# Altium footprint library DIP-RL  0607.PCBlib: 52 footprints (part 3 of 4)
Each footprint in its own frame and in the unit in brackets; x right, y up, seen from the top. Pads: shape width x height; smd on the part's side, far side on the other; paste and mask are expansions set on the pad; w line width, h text height; cw(c..) or ccw(c..) is an arc to the next point about the centre after c.
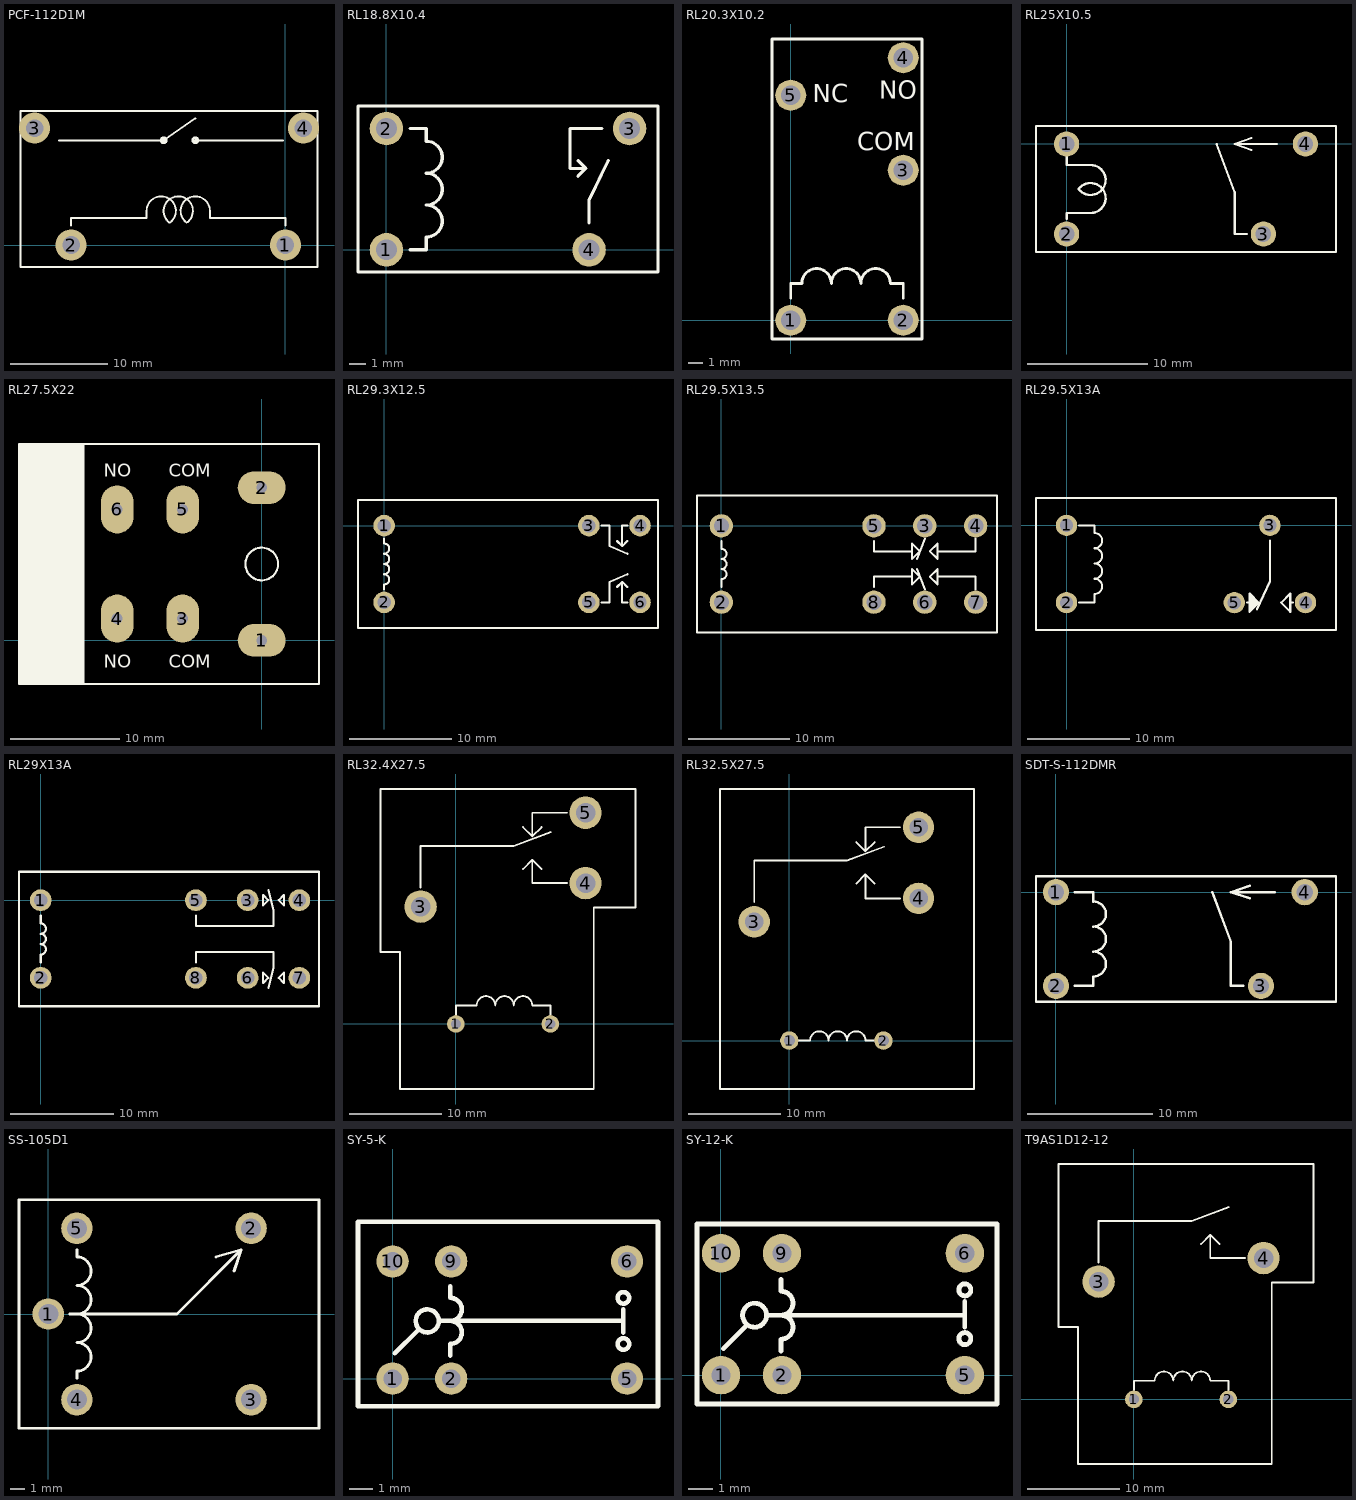
[diagram p2: the footprints below, top view; thin cyan lines are the x and y axes]

## PCF-112D1M [mm] "0720500001"
height 37
pads (4):
  round 3.2 hole 1.8: 1(0,0) 2(-22,0) 3(-25.75,12) 4(1.85,12)
Top Overlay:
  circle w0.3: c-9.25,10.75 r0.25
  circle w0.3: c-12.5,10.75 r0.25
  lines w0.2: -23.25,10.75 -12.5,10.75 -9.25,13 ; -22,2 -22,2.75 -14.25,2.75 -14.25,3.5 cw(c-12.75,3.5) -11.847,2.302 ; -11.903,2.302 cw(c-11,3.5) -10.036,2.351 ; -10.153,2.302 cw(c-9.25,3.5) -7.75,3.5 -7.75,2.75 0,2.75 0,2 ; -9.25,10.75 -0.25,10.75 ; -27.2,-2.25 3.3,-2.25 3.3,13.75 -27.2,13.75 -27.2,-2.25

## RL18.8X10.4 [mm]
pads (4):
  round 2.1 hole 1.3: 1(0,0) 2(0,7.6) 3(15.24,7.6) 4(12.7,0)
Top Overlay:
  lines w0.2: 1.5,0 2.5,0 2.5,0.8 ccw(c2.5,1.8) 2.5,2.8 ccw(c2.5,3.8) 2.5,4.8 ccw(c2.5,5.8) 2.5,6.8 ; 1.5,7.6 2.5,7.6 2.5,6.8 ; 12,4.6 12.5,5.1 ; 12,5.6 12.5,5.1 ; 12.7,1.7 12.7,3.1 13.9,5.6 ; 13.5,7.6 11.5,7.6 11.5,5.1 12.5,5.1 ; -1.778,-1.397 -1.778,9.017 17.018,9.017 17.018,-1.397 -1.778,-1.397

## RL20.3X10.2 [mm]
pads (5):
  round 2.1 hole 1.3: 1(0,0) 2(7.62,0) 3(7.62,10.16) 4(7.62,17.78) 5(0,15.24)
Top Overlay:
  lines w0.2: 0,1.5 0,2.5 ; 0,2.5 0.75,2.5 cw(c1.75,2.5) 2.75,2.5 cw(c3.75,2.5) 4.75,2.5 cw(c5.75,2.5) 6.75,2.5 7.62,2.5 7.62,1.5 ; -1.27,-1.27 8.89,-1.27 8.89,19.05 -1.27,19.05 -1.27,-1.27
  text "NO" at 6,15 h1.2
  text "COM" at 4.5,11.5 h1.2
  text "NC" at 1.5,14.75 h1.2

## RL25X10.5 [mm]
pads (4):
  round 2.1 hole 1.3: 1(0,0) 2(0,-7.5) 3(16.4,-7.5) 4(19.9,0)
Top Overlay:
  lines w0.2: 0,-6.25 0,-5.75 2.25,-5.75 ; 0,-1 0,-1.75 2,-1.75 cw(c2,-3) 1.002,-3.752 ; 1.002,-3.748 cw(c2,-4.5) 2,-5.75 ; 12.5,0 14,-4 14,-7.5 15,-7.5 ; 15.4,-0.5 14,0 ; 15.4,0.5 14,0 ; 17.5,0 14,0 ; -2.55,-9 22.45,-9 22.45,1.5 -2.55,1.5 -2.55,-9

## RL27.5X22 [mm]
pads (6):
  oval 4.4x3 hole 1: 1(0,0) 2(0,14)
  oval 3x4.4 hole 1: 3(-7.25,2) 4(-13.25,2) 5(-7.25,12) 6(-13.25,12)
Top Overlay:
  circle w0.2: c0,7 r1.5
  rectangle: -22.25,-4 -16.25,18
  lines w0.2: -22.25,-4 5.25,-4 5.25,18 -22.25,18 -22.25,-4
  text "COM" at -8.5,-2.5 h1.2
  text "NO" at -14.5,-2.5 h1.2
  text "NC" at -19.5,15 h1.2
  text "NO" at -14.5,15 h1.2
  text "COM" at -8.5,15 h1.2
  text "1" at -17.5,11.5 h1.2
  text "2" at -17.5,1 h1.2
  text "NC" at -19.5,-2.5 h1.2
Top Solder:
  lines w1.3: -13.25,1.3 -13.25,2 -13.25,2.7 ; -13.25,11.3 -13.25,12 -13.25,12.7 ; -7.25,1.3 -7.25,2 -7.25,2.7 ; -7.25,11.3 -7.25,12 -7.25,12.7 ; -0.7,0 0,0 0.7,0 ; -0.7,14 0,14 0.7,14
Drill Drawing:
  lines w0.2: -13.75,1.3 ccw(c-13.25,1.3) -12.75,1.3 -12.75,2.7 ccw(c-13.25,2.7) -13.75,2.7 -13.75,1.3 ; -13.75,11.3 ccw(c-13.25,11.3) -12.75,11.3 -12.75,12.7 ccw(c-13.25,12.7) -13.75,12.7 -13.75,11.3 ; -7.75,1.3 ccw(c-7.25,1.3) -6.75,1.3 -6.75,2.7 ccw(c-7.25,2.7) -7.75,2.7 -7.75,1.3 ; -7.75,11.3 ccw(c-7.25,11.3) -6.75,11.3 -6.75,12.7 ccw(c-7.25,12.7) -7.75,12.7 -7.75,11.3 ; -0.7,-0.5 cw(c-0.7,0) -0.7,0.5 0.7,0.5 cw(c0.7,0) 0.7,-0.5 -0.7,-0.5 ; -0.7,13.5 cw(c-0.7,14) -0.7,14.5 0.7,14.5 cw(c0.7,14) 0.7,13.5 -0.7,13.5
  text "(2.4X1.0)*6" at -14.5,6.5 h1.2

## RL29.3X12.5 [mm]
pads (6):
  round 2.1 hole 1.3: 1(0,0) 2(0,-7.5) 3(20,0) 4(25,0) 5(20,-7.5) 6(25,-7.5)
Top Overlay:
  lines w0.2: 0,-6.25 0,-5.75 ccw(c0,-5.25) 0,-4.75 ccw(c0,-4.25) 0,-3.75 ccw(c0,-3.25) 0,-2.75 ccw(c0,-2.25) 0,-1.75 0,-1.25 ; 21.25,-7.5 22,-7.5 22,-5.5 23.75,-4.75 ; 21.25,0 22,0 22,-2 23.75,-2.75 ; 22.75,-6 23.25,-5.5 ; 22.75,-1.5 23.25,-2 ; 23.75,-7.5 23.25,-7.5 23.25,-5.5 ; 23.75,-6 23.25,-5.5 ; 23.75,-1.5 23.25,-2 ; 23.75,0 23.25,0 23.25,-2 ; -2.55,-10 26.75,-10 26.75,2.5 -2.55,2.5 -2.55,-10

## RL29.5X13.5 [mm]
pads (8):
  round 2.3 hole 1.5: 1(0,0) 2(0,-7.5) 3(20,0) 4(25,0) 5(15,0) 6(20,-7.5) 7(25,-7.5) 8(15,-7.5)
Top Overlay:
  lines w0.2: 0,-6 0,-5.25 ccw(c0,-4.75) 0,-4.25 ccw(c0,-3.75) 0,-3.25 ccw(c0,-2.75) 0,-2.25 0,-1.5 ; 15,-6 15,-5 18.75,-5 ; 15,-1.5 15,-2.5 18.75,-2.5 ; 19.25,-3.25 20,-1.25 ; 19.25,-4.25 20,-6.25 ; 21.25,-5 25,-5 25,-6.25 ; 21.25,-2.5 25,-2.5 25,-1.25 ; -2.4,-10.5 -2.4,3 27.1,3 27.1,-10.5 -2.4,-10.5 ; 18.75,-5.75 19.5,-5 18.75,-4.25 18.75,-5.75 ; 18.75,-3.25 19.5,-2.5 18.75,-1.75 18.75,-3.25 ; 20.5,-5 21.25,-4.25 21.25,-5.75 20.5,-5 ; 20.5,-2.5 21.25,-1.75 21.25,-3.25 20.5,-2.5

## RL29.5X13A [mm]
pads (5):
  round 2.1 hole 1.3: 1(0,0) 2(0,-7.6) 3(20,0) 4(23.5,-7.6) 5(16.5,-7.6)
Top Overlay:
  lines w0.2: 1.25,-7.6 2.75,-7.6 2.75,-6.75 ccw(c2.75,-6) 2.75,-5.25 ccw(c2.75,-4.5) 2.75,-3.75 ccw(c2.75,-3) 2.75,-2.25 ccw(c2.75,-1.5) 2.75,-0.75 2.75,0 1.25,0 ; 17.75,-7.6 18,-7.6 ; 18.2,-8.3 18.2,-6.9 ; 18.4,-8.1 18.4,-7.1 ; 18.6,-7.9 18.6,-7.3 ; 18.75,-8.25 20,-5.5 20,-1.5 ; 18.8,-7.7 18.8,-7.5 ; 22,-7.6 22.25,-7.6 ; 18,-7.6 18,-6.7 18.9,-7.6 18,-8.5 18,-7.6 ; -3,-10.3 -3,2.7 26.5,2.7 26.5,-10.3 -3,-10.3 ; 21.1,-7.6 22,-8.5 22,-6.7 21.1,-7.6

## RL29X13A [mm]
pads (8):
  round 2.1 hole 1.3: 1(0,0) 2(0,-7.5) 3(20,0) 4(25,0) 5(15,0) 6(20,-7.5) 7(25,-7.5) 8(15,-7.5)
Top Overlay:
  lines w0.2: 0,-6 0,-5.25 ccw(c0,-4.75) 0,-4.25 ccw(c0,-3.75) 0,-3.25 ccw(c0,-2.75) 0,-2.25 0,-1.5 ; 15,-6 15,-5 22.5,-5 22.5,-6.5 22,-8.5 ; 15,-1.5 15,-2.5 22.5,-2.5 22.5,-1 22,1 ; -2.1,-10.25 26.9,-10.25 26.9,2.75 -2.1,2.75 -2.1,-10.25 ; 21.5,-8 21.5,-7 22,-7.5 21.5,-8 ; 21.5,-0.5 22,0 21.5,0.5 21.5,-0.5 ; 23,-7.5 23.5,-8 23.5,-7 23,-7.5 ; 23,0 23.5,-0.5 23.5,0.5 23,0

## RL32.4X27.5 [mm]
pads (5):
  round 1.9 hole 1.1: 1(0,0) 2(10.2,0)
  round 3.5 hole 2.1: 3(-3.8,12.66) 4(14,15.2) 5(14,22.8)
Top Overlay:
  lines w0.2: -3.8,14.71 -3.8,19.21 6.25,19.21 10.25,20.71 ; 0,1 0,2 2.25,2 cw(c3.25,2) 4.25,2 cw(c5.25,2) 6.25,2 cw(c7.25,2) 8.25,2 10.2,2 10.2,1 ; 7.25,16.71 8.25,17.71 ; 7.25,21.25 8.25,20.25 ; 8.25,15.2 12,15.2 ; 8.25,15.21 8.25,17.71 ; 8.25,22.75 8.25,20.25 ; 8.25,22.8 12,22.8 ; 9.25,16.71 8.25,17.71 ; 9.25,21.25 8.25,20.25 ; -8.12,7.78 -6.025,7.78 -6.025,-7.025 14.885,-7.025 14.885,12.56 19.38,12.56 19.38,25.36 -8.12,25.36 -8.12,7.78

## RL32.5X27.5 [mm]
pads (5):
  round 2 hole 1.2: 1(0,0) 2(10.2,0)
  round 3.4 hole 2: 3(-3.8,12.864) 4(14,15.404) 5(14,23.104)
Top Overlay:
  lines w0.2: -3.8,15 -3.8,19.5 6.25,19.5 10.25,21 ; 0,0 2.25,0 cw(c3.25,0) 4.25,0 cw(c5.25,0) 6.25,0 cw(c7.25,0) 8.25,0 10.2,0 ; 7.25,17 8.25,18 ; 7.25,21.5 8.25,20.5 ; 9.25,17 8.25,18 ; 9.25,21.5 8.25,20.5 ; 12,15.404 8.25,15.404 8.25,18 ; 12,23.104 8.25,23.104 8.25,20.5 ; -7.5,-5.25 -7.5,27.25 20,27.25 20,-5.25 -7.5,-5.25

## SDT-S-112DMR [mm] "0720020401"
height 25
pads (4):
  round 2.1 hole 1.3: 1(0,0) 2(0,-7.5) 3(16.4,-7.5) 4(19.9,0)
Top Overlay:
  lines w0.2: -1.6,-8.75 -1.6,1.25 22.4,1.25 22.4,-8.75 -1.5,-8.75 ; 1.5,-7.5 3,-7.5 3,-6.75 ccw(c3,-5.75) 3,-4.75 ccw(c3,-3.75) 3,-2.75 ccw(c3,-1.75) 3,-0.75 3,0 1.5,0 ; 12.5,0 14,-4 14,-7.5 15,-7.5 ; 15.5,-0.5 14,0 ; 15.5,0.5 14,0 ; 17.5,0 14,0

## SS-105D1 [mm] "0720240001"
height 23.3
pads (5):
  round 2.2 hole 1.4: 1(0,0) 2(14.2,6) 3(14.2,-6) 4(2,-6) 5(2,6)
Top Overlay:
  lines w0.2: 1.5,0 9,0 13.5,4.5 ; 2,-4.5 2,-4 ccw(c2,-3) 2,-2 ccw(c2,-1) 2,0 ccw(c2,1) 2,2 ccw(c2,3) 2,4 2,4.5 ; 11.75,4 13.5,4.5 ; 13,3 13.5,4.5 ; -2.05,-8 -2.05,8 18.95,8 18.95,-8 -2.05,-8

## SY-5-K [mm] "0720670007"
height 9.5
pads (6):
  round 1.4 hole 0.8: 1(0,0) 2(2.54,0) 5(10.16,0) 6(10.16,5.08) 9(2.54,5.08) 10(0,5.08)
Top Overlay:
  circle w0.2: c10,3.5 r0.25
  circle w0.2: c10,1.5 r0.25
  circle w0.2: c1.5,2.5 r0.5
  lines w0.2: 0.1,1.1 1.1,2.1 ; 2,2.5 10,2.5 ; 2.5,1 2.5,1.5 ccw(c2.5,2) 2.5,2.5 ccw(c2.5,3) 2.5,3.5 2.5,4 ; 10,2 10,3 ; -1.5,-1.2 -1.5,6.8 11.5,6.8 11.5,-1.2 -1.5,-1.2
Bottom Overlay:
  lines w0.6: 1.27,-0.8 1.27,0.8 ; 1.27,4.28 1.27,5.88

## SY-12-K [mm]
height 9.5
pads (6):
  round 1.6 hole 0.8: 1(0.002,0.001) 2(2.542,0.001) 5(10.162,0.001) 6(10.162,5.081) 9(2.542,5.081) 10(0.002,5.081)
Top Overlay:
  circle w0.2: c1.402,2.501 r0.5
  circle w0.2: c10.162,1.525 r0.25
  circle w0.2: c10.162,3.557 r0.25
  lines w0.2: 0.102,1.101 1.102,2.101 ; 1.902,2.501 10.162,2.501 ; 2.502,1.001 2.502,1.501 ccw(c2.502,2.001) 2.502,2.501 ccw(c2.502,3.001) 2.502,3.501 2.502,4.001 ; 10.162,2.001 10.162,3.081 ; -0.998,-1.199 11.502,-1.199 11.502,6.301 -0.998,6.301 -0.998,-1.199
Bottom Overlay:
  lines w0.6: 1.272,-0.799 1.272,0.801 ; 1.272,4.281 1.272,5.881

## T9AS1D12-12 [mm] "0720610019"
height 20.4
pads (4):
  round 1.9 hole 1.1: 1(0,0) 2(10.2,0)
  round 3.5 hole 2.1: 3(-3.8,12.7) 4(14,15.24)
Top Overlay:
  lines w0.2: -3.8,14.75 -3.8,19.25 6.25,19.25 10.25,20.75 ; 0,1 0,2 2.25,2 cw(c3.25,2) 4.25,2 cw(c5.25,2) 6.25,2 cw(c7.25,2) 8.25,2 10.2,2 10.2,1 ; 7.25,16.75 8.25,17.75 ; 8.25,15.24 12,15.24 ; 8.25,15.25 8.25,17.75 ; 9.25,16.75 8.25,17.75 ; -8.12,7.82 -8.12,25.4 19.38,25.4 19.38,12.6 14.885,12.6 14.885,-6.985 -6.025,-6.985 -6.025,7.82 -8.12,7.82